# Altium schematic symbol library Fuse.SchLib: 2 symbols
Pins are listed as number, name and electrical type; pins without a type are passive.

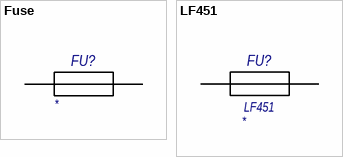
[diagram p0: symbols Fuse to LF451]

## Fuse
designator FU?
Type: *; Value: *
pins: 1, 2

## LF451
designator FU?  Type: LF451  (hidden comment: *)
Value: *
footprint LF451-1
footprint LF451-BOX
pins: 1, 2